# EAGLE library part DRV8833 (library motordriver)
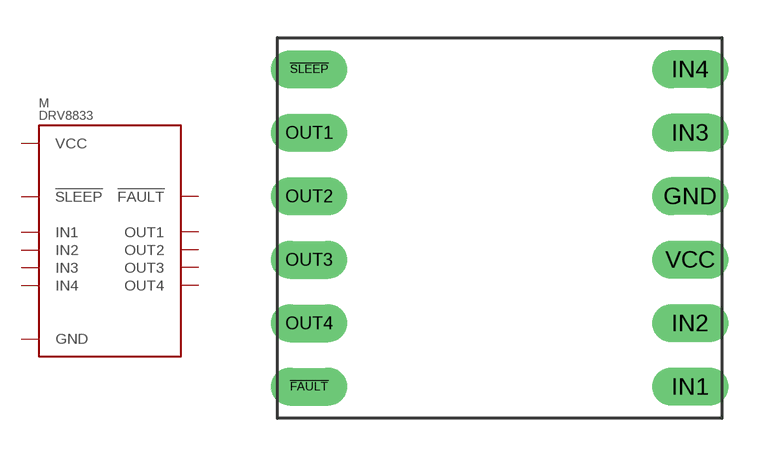
[diagram p0: symbol with the pads of DRV8833_MODULE; footprint DRV8833_MODULE]

Designator prefix M

## DRV8833  [DRV8833_MODULE]
!FAULT  !FAULT
!SLEEP  !SLEEP
GND  GND
IN1  IN1
IN2  IN2
IN3  IN3
IN4  IN4
OUT1  OUT1
OUT2  OUT2
OUT3  OUT3
OUT4  OUT4
VCC  VCC

## Footprint DRV8833_MODULE (pad centres in mm)
drill 1.016 long: !FAULT -7.62,-6.35; !SLEEP -7.62,6.35; GND 7.62,1.27; IN1 7.62,-6.35; IN2 7.62,-3.81; IN3 7.62,3.81; IN4 7.62,6.35; OUT1 -7.62,3.81; OUT2 -7.62,1.27; OUT3 -7.62,-1.27; OUT4 -7.62,-3.81; VCC 7.62,-1.27